# EAGLE library part FXLS8471Q (library lib_stankus)
FXLS8471Q Farnell #2377753
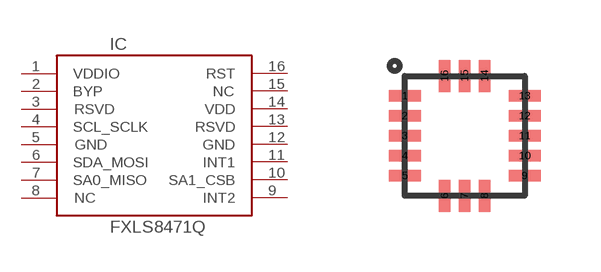
[diagram p112: symbol with the pads of QFN16_3_05_SPEC; footprint QFN16_3_05_SPEC]

Designator prefix IC

## FXLS8471Q-QFN16  [QFN16_3_05_SPEC]
1  VDDIO  pas
2  BYP  pas
3  RSVD  pas
4  SCL_SCLK  pas
5  GND  pas
6  SDA_MOSI  pas
7  SA0_MISO  pas
8  NC  nc
9  INT2  pas
10  SA1_CSB  pas
11  INT1  pas
12  GND  pas
13  RSVD  pas
14  VDD  pas
15  NC  nc
16  RST  pas

## Footprint QFN16_3_05_SPEC (pad centres in mm)
QFN32, 3x3 MM, 0.5 MM, SPECIAL
smd 0.8 x 0.28: 1 -1.5,1; 2 -1.5,0.5; 3 -1.5,0; 4 -1.5,-0.5; 5 -1.5,-1; 9 1.5,-1; 10 1.5,-0.5; 11 1.5,0; 12 1.5,0.5; 13 1.5,1
smd 0.28 x 0.8: 6 -0.5,-1.5; 7 0,-1.5; 8 0.5,-1.5; 14 0.5,1.5; 15 0,1.5; 16 -0.5,1.5